# EAGLE library part LMH6881 (library ICs)
LMH6881 DC to 2.4-GHz, High-Linearity, Programmable Differential Amplifier
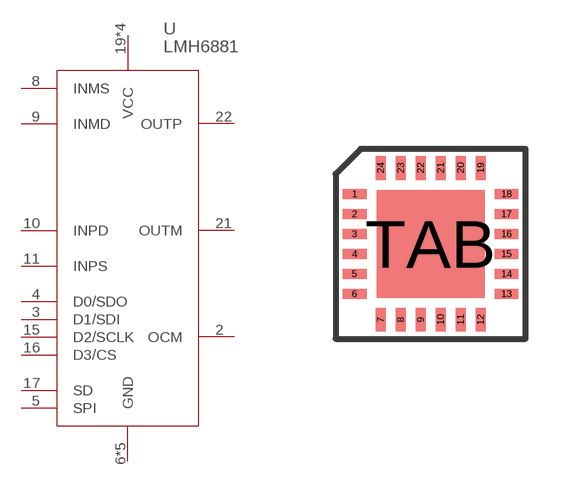
[diagram p182: symbol with the pads of QFN24; footprint QFN24]

Designator prefix U

## LMH6881 (DIGIKEY: 296-40271-1-ND; HEIGHT: 1; PRICE_PER: 5.99; VALUE: LMH6881)  [QFN24]
2  OCM
3  D1/SDI
4  D0/SDO
5  SPI
6  GND
7  GND
8  INMS
9  INMD
10  INPD
11  INPS
12  GND
13  GND
15  D2/SCLK
16  D3/CS
17  SD
19  VCC
20  VCC
21  OUTM
22  OUTP
23  VCC
24  VCC
TAB  GND

## Footprint QFN24 (pad centres in mm)
smd 0.6 x 0.25: 1 -1.9,1.25; 2 -1.9,0.75; 3 -1.9,0.25; 4 -1.9,-0.25; 5 -1.9,-0.75; 6 -1.9,-1.25; 13 1.9,-1.25; 14 1.9,-0.75; 15 1.9,-0.25; 16 1.9,0.25; 17 1.9,0.75; 18 1.9,1.25
smd 0.25 x 0.6: 7 -1.25,-1.9; 8 -0.75,-1.9; 9 -0.25,-1.9; 10 0.25,-1.9; 11 0.75,-1.9; 12 1.25,-1.9; 19 1.25,1.9; 20 0.75,1.9; 21 0.25,1.9; 22 -0.25,1.9; 23 -0.75,1.9; 24 -1.25,1.9
smd 2.7 x 2.7: TAB 0,0